# Altium footprint library Logic_Gates.PcbLib: 1 footprints
Each footprint in its own frame and in the unit in brackets; x right, y up, seen from the top. Pads: shape width x height; smd on the part's side, far side on the other; paste and mask are expansions set on the pad; w line width, h text height; cw(c..) or ccw(c..) is an arc to the next point about the centre after c.
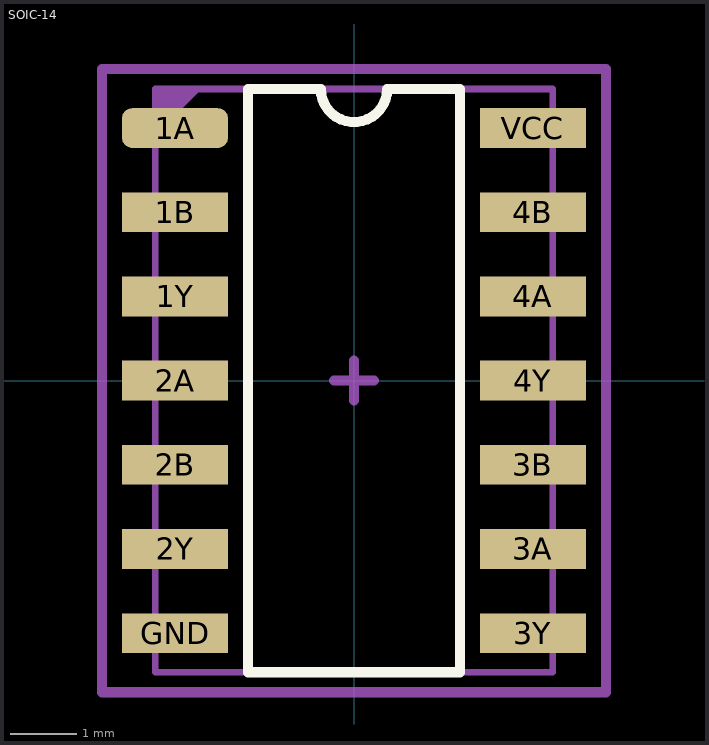
[diagram p0: the footprint, top view; thin cyan lines are the x and y axes]

## SOIC-14 [mm]
pads (14):
  rrect50% 1.6x0.6 smd: 1A(-2.7,3.81)
  rect 1.6x0.6 smd: 1B(-2.7,2.54) 1Y(-2.7,1.27) 2A(-2.7,0) 2B(-2.7,-1.27) 2Y(-2.7,-2.54) 3A(2.7,-2.54) 3B(2.7,-1.27) 3Y(2.7,-3.81) 4A(2.7,1.27) 4B(2.7,2.54) 4Y(2.7,0) GND(-2.7,-3.81) VCC(2.7,3.81)
Top Overlay:
  lines w0.153: -1.6,-4.4 1.6,-4.4 1.6,4.4 0.5,4.4 cw(c0,4.4) -0.5,4.4 -1.6,4.4 -1.6,-4.4
Top Assembly:
  region: -3,4.4 -2.3,4.4 -3,3.7
  lines w0.1: -3,-4.4 3,-4.4 3,4.4 -3,4.4 -3,-4.4
  text "'.Designator'" at -0.333,4.532 h0.8
Top Courtyard:
  lines w0.153: -0.3,0 0.3,0 ; 0,-0.3 0,0.3 ; -3.8,-4.7 3.8,-4.7 3.8,4.7 -3.8,4.7 -3.8,-4.7
3D body "soic14-1.step": height 1.7, standoff 0, extent -3,-4.4 3,4.4